# EAGLE library part LM13700M (library FarnellThings)
Dual Operational Transconductance Amplifiers
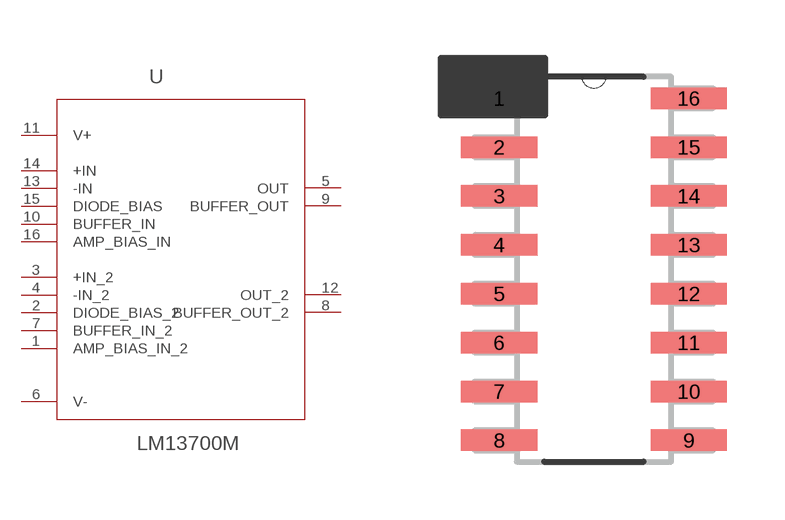
[diagram p15: symbol with the pads of SOIC127P620X175-16N; footprint SOIC127P620X175-16N]

Designator prefix U

## LM13700M (MPN: LM13700M; OC_FARNELL: 1468910; OC_NEWARK: 41K3505; PACKAGE: SOIC-16; SUPPLIER: National Semiconductor)  [SOIC127P620X175-16N]
1  AMP_BIAS_IN_2  in
2  DIODE_BIAS_2  in
3  +IN_2  in
4  -IN_2  in
5  OUT  out
6  V-  pwr
7  BUFFER_IN_2  in
8  BUFFER_OUT_2  out
9  BUFFER_OUT  out
10  BUFFER_IN  in
11  V+  pwr
12  OUT_2  out
13  -IN  in
14  +IN  in
15  DIODE_BIAS  in
16  AMP_BIAS_IN  in

## Footprint SOIC127P620X175-16N (pad centres in mm)
smd 1.981 x 0.559: 1 -2.464,4.445; 2 -2.464,3.175; 3 -2.464,1.905; 4 -2.464,0.635; 5 -2.464,-0.635; 6 -2.464,-1.905; 7 -2.464,-3.175; 8 -2.464,-4.445; 9 2.464,-4.445; 10 2.464,-3.175; 11 2.464,-1.905; 12 2.464,-0.635; 13 2.464,0.635; 14 2.464,1.905; 15 2.464,3.175; 16 2.464,4.445